# Altium footprint library GMC32X7R225K100NT.PcbLib: 3 footprints
Each footprint in its own frame and in the unit in brackets; x right, y up, seen from the top. Pads: shape width x height; smd on the part's side, far side on the other; paste and mask are expansions set on the pad; w line width, h text height; cw(c..) or ccw(c..) is an arc to the next point about the centre after c.
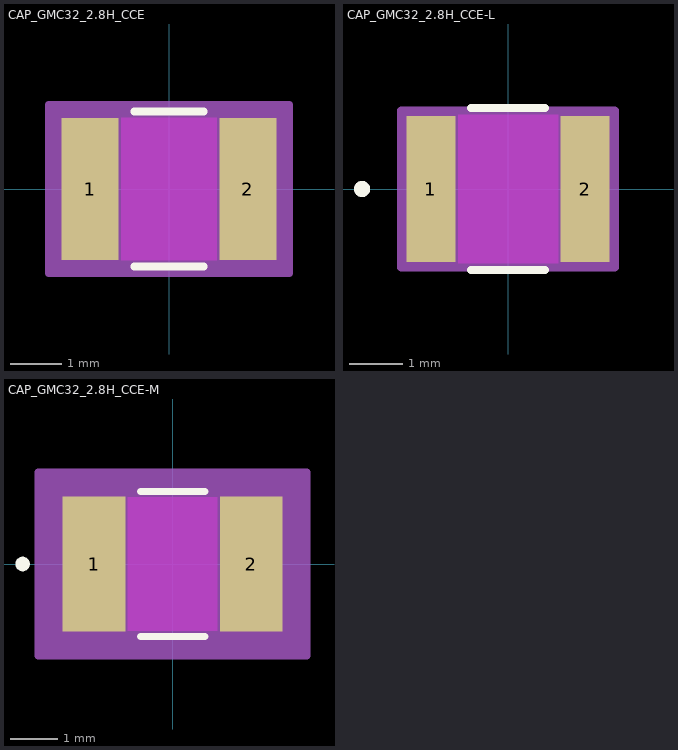
[diagram p0: the footprints below, top view; thin cyan lines are the x and y axes]

## CAP_GMC32_2.8H_CCE [mil]
pads (2):
  rect 44x110 smd paste+0 mask+0: 1(-61,0) 2(61,0)
Top Layer keep-out:
  region: -37,-53 -37,53 37,53 37,-53
Top Overlay:
  lines w6: -26.89,-60 26.89,-60 ; -26.89,60 26.89,60
Keep-Out Layer:
  region: -37,-55 -37,55 37,55 37,-55
Mechanical 13:
  circle w0: c-56,0 r0
  lines w1: -69,-55 -69,55 ; -69,-55 -39,-55 -39,55 -69,55 ; -69,-55 69,-55 ; -69,-55 -69,55 ; -69,55 69,55 ; 69,-55 39,-55 39,55 69,55 ; 69,-55 69,55 ; 69,-55 69,55
Mechanical 15:
  region: 93,-65 -93,-65 -93,65 93,65
  lines w6: -93,-65 -93,65 93,65 93,-65 -93,-65
3D body "CAP_GMC32_28H_CCE.step": height 110, standoff 0, extent -69.02,-55 69.02,55

## CAP_GMC32_2.8H_CCE-L [mil]
pads (2):
  rect 36x108 smd paste+0 mask+0: 1(-57,0) 2(57,0)
Top Layer keep-out:
  region: -37,-53 -37,53 37,53 37,-53
Top Overlay:
  circle w6: c-108,0 r3
  lines w6: -27.35,-60 27.35,-60 ; -27.35,60 27.35,60
Keep-Out Layer:
  region: -37,-55 -37,55 37,55 37,-55
Mechanical 13:
  circle w0: c-52,0 r3
  lines w1: -69,-55 -69,55 ; -69,-55 -39,-55 -39,55 -69,55 ; -69,-55 69,-55 ; -69,-55 -69,55 ; -69,55 69,55 ; 69,-55 39,-55 39,55 69,55 ; 69,-55 69,55 ; 69,-55 69,55
Mechanical 15:
  region: 79,-58 -79,-58 -79,58 79,58
  lines w6: -79,-58 -79,58 79,58 79,-58 -79,-58
3D body: height 10, standoff 0, extent 0,0 10,10

## CAP_GMC32_2.8H_CCE-M [mil]
pads (2):
  rect 52x112 smd paste+0 mask+0: 1(-65,0) 2(65,0)
Top Layer keep-out:
  region: -37,-53 -37,53 37,53 37,-53
Top Overlay:
  circle w6: c-124,0 r3
  lines w6: -26.53,-60 26.53,-60 ; -26.53,60 26.53,60
Keep-Out Layer:
  region: -37,-55 -37,55 37,55 37,-55
Mechanical 13:
  circle w0: c-60,0 r3
  lines w1: -69,-55 -69,55 ; -69,-55 -39,-55 -39,55 -69,55 ; -69,-55 69,-55 ; -69,-55 -69,55 ; -69,55 69,55 ; 69,-55 39,-55 39,55 69,55 ; 69,-55 69,55 ; 69,-55 69,55
Mechanical 15:
  region: 111,-76 -111,-76 -111,76 111,76
  lines w6: -111,-76 -111,76 111,76 111,-76 -111,-76
3D body: height 10, standoff 0, extent 0,0 10,10